# Altium footprint library eic_lib.PcbLib: 17 footprints (part 2 of 2)
Each footprint in its own frame and in the unit in brackets; x right, y up, seen from the top. Pads: shape width x height; smd on the part's side, far side on the other; paste and mask are expansions set on the pad; w line width, h text height; cw(c..) or ccw(c..) is an arc to the next point about the centre after c.
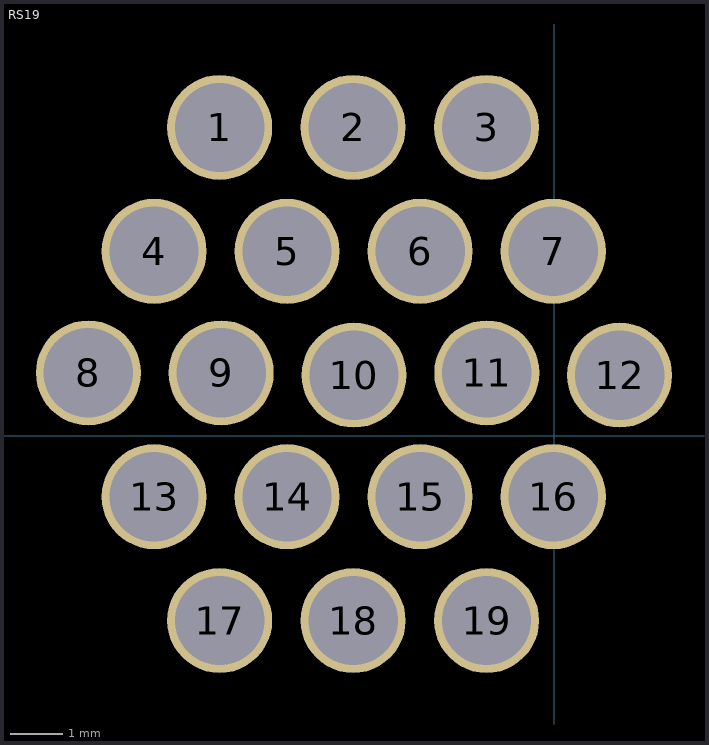
[diagram p1: the footprint, top view; thin cyan lines are the x and y axes]

## RS19 [mm]
pads (19):
  round 2 hole 1.7: 1(-6.372,5.866) 2(-3.832,5.866) 3(-1.292,5.866) 4(-7.622,3.509) 5(-5.089,3.509) 6(-2.556,3.509) 7(-0.022,3.509) 8(-8.872,1.195) 9(-6.344,1.195) 10(-3.815,1.152) 11(-1.287,1.195) 12(1.242,1.152) 13(-7.622,-1.162) 14(-5.089,-1.162) 15(-2.556,-1.162) 16(-0.022,-1.162) 17(-6.372,-3.519) 18(-3.832,-3.519) 19(-1.292,-3.519)